# EAGLE library part TL061 (library guitar-pedals)
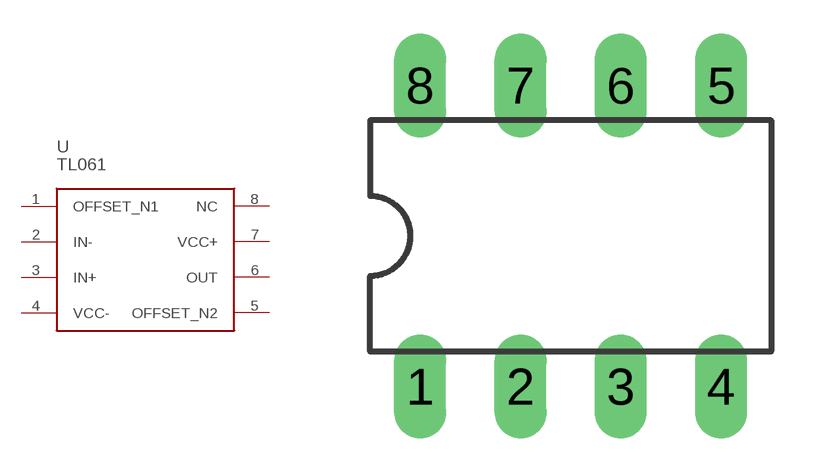
[diagram p3: symbol with the pads of DIL08; footprint DIL08]

Designator prefix U

## TL061  [DIL08]
1  OFFSET_N1
2  IN-
3  IN+
4  VCC-
5  OFFSET_N2
6  OUT
7  VCC+
8  NC

## Footprint DIL08 (pad centres in mm)
Dual In Line Package
drill 0.813 long: 1 -3.81,-3.81; 2 -1.27,-3.81; 3 1.27,-3.81; 4 3.81,-3.81; 5 3.81,3.81; 6 1.27,3.81; 7 -1.27,3.81; 8 -3.81,3.81